# EAGLE library part RFX2401C (library maxorig)
RFX2401C - Simple PA/LNA amplifier Commonly used with the NRF24L01(+) for range extension or material penetration. Technical specifications: VCC: 2.0-3.6V Max current consumption on TX: 350mA Operating temperature: -40 to +125C Antenna impedance: 50 ohm Shutdown current: max 1 uA
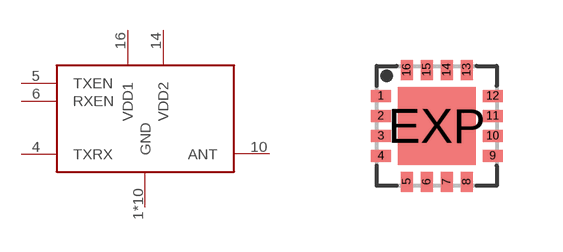
[diagram p12: symbol with the pads of QFN16_3X3; footprint QFN16_3X3]

Designator prefix -

## RFX2401CQFN  [QFN16_3X3]
1  GND
2  GND
3  GND
4  TXRX
5  TXEN
6  RXEN
7  GND
8  GND
9  GND
10  ANT
11  GND
12  GND
14  VDD2
15  GND
16  VDD1
EXP  GND

## Footprint QFN16_3X3 (pad centres in mm)
QFN 16 3x3 mm Source: www.hittite.com .. hmc492lp3.pdf
smd 0.5 x 0.3: 1 -1.4,0.75; 2 -1.4,0.25; 3 -1.4,-0.25; 4 -1.4,-0.75; 9 1.4,-0.75; 10 1.4,-0.25; 11 1.4,0.25; 12 1.4,0.75
smd 0.3 x 0.5: 5 -0.75,-1.4; 6 -0.25,-1.4; 7 0.25,-1.4; 8 0.75,-1.4; 13 0.75,1.4; 14 0.25,1.4; 15 -0.25,1.4; 16 -0.75,1.4
smd 1.95 x 1.95: EXP 0,0